# Altium integrated library Dallas Peripheral Real Time Clock.IntLib: 167 symbols (part 4 of 4)
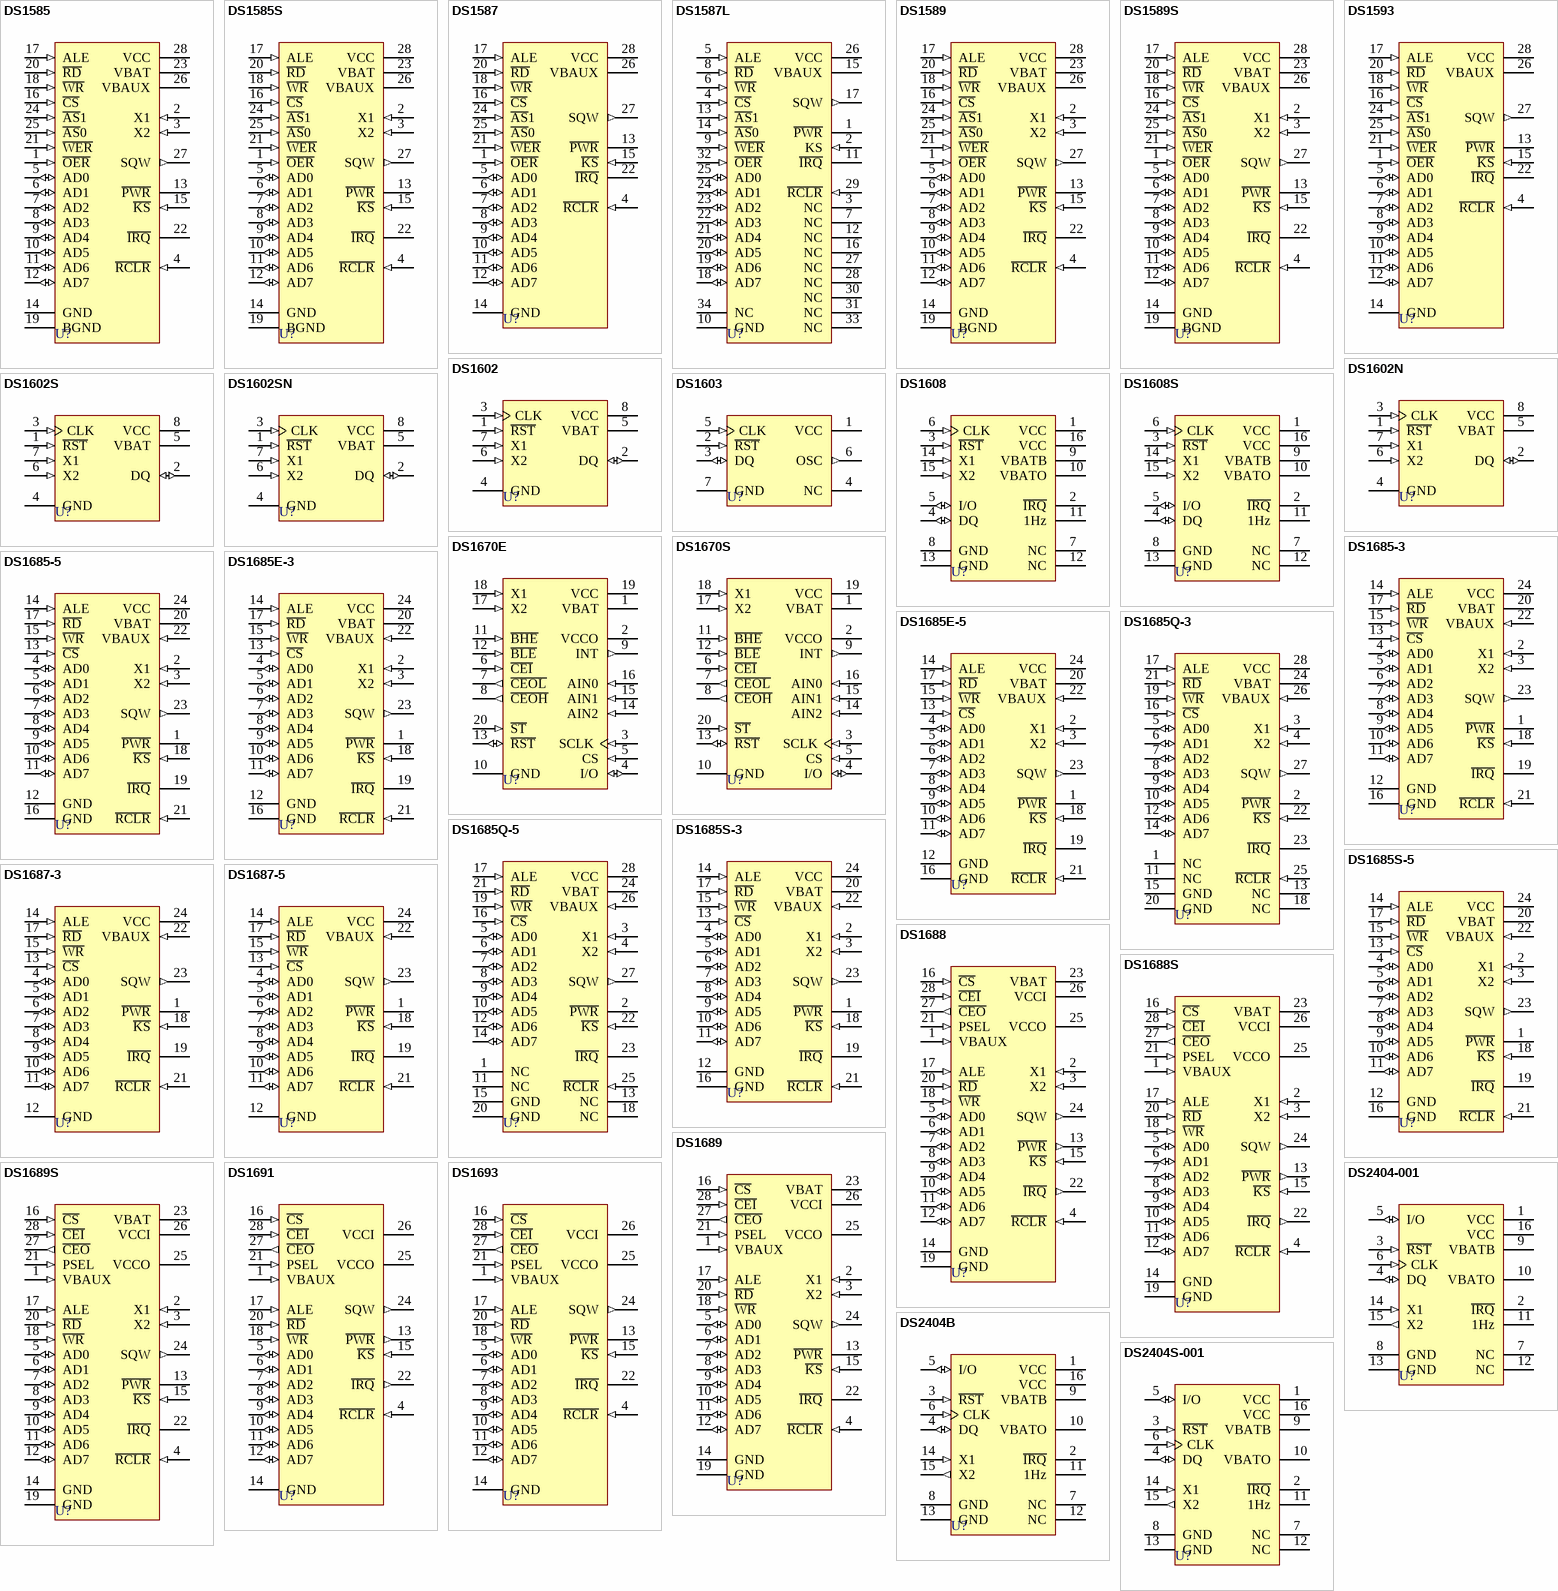
[diagram p8: symbols DS1585 to DS2404S-001]

## DS1685S-5
designator U?
5V Real-Time Clock; Published: 13-Oct-2000; LatestRevisionDate: 13-Apr-2006; LatestRevisionNote: IPC-7351 Footprint Added.; DatasheetVersion: 2-Mar-1999; PackageVersion: 1999; PackageReference: SOIC24N; Publisher: Altium Limited; PackageDescription: 24-Pin Small Outline Integrated Circuit 1.27 mm Pitch; Code_IPC: SOIC127P1047-24; ComponentLink1Description: Manufacturer Link; ComponentLink1URL: http://www.maxim-ic.com/; ComponentLink2Description: Datasheet; ComponentLink2URL: http://pdfserv.maxim-ic.com/en/ds/DS1685-DS1687.pdf; ComponentLink3Description: Discontinuation Notice; ComponentLink3URL: http://www.maxim-ic.com/qa/pdfs/non-obsolescence-letter.pdf
footprint SOIC24N_N (SOIC, 24-Leads, Body 15.4x7.5mm, Pitch 1.27mm, IPC Medium Density)
footprint SOIC24N_L (SOIC, 24-Leads, Body 15.4x7.5mm, Pitch 1.27mm, IPC High Density)
footprint SOIC24N_M (SOIC, 24-Leads, Body 15.4x7.5mm, Pitch 1.27mm, IPC Low Density)
3D model SOIC24N (24-Pin Small Outline Integrated Circuit 1.27 mm Pitch)
pins: 1 ~{PWR} (oc), 2 X1 (in), 3 X2 (in), 4 AD0 (io), 5 AD1 (io), 6 AD2 (io), 7 AD3 (io), 8 AD4 (io), 9 AD5 (io), 10 AD6 (io), 11 AD7 (io), 12 GND (power), 13 ~{CS} (in), 14 ALE (in), 15 ~{WR} (in), 16 GND (power), 17 ~{RD} (in), 18 ~{KS} (in), 19 ~{IRQ} (oc), 20 VBAT (power), 21 ~{RCLR} (in), 22 VBAUX (in), 23 SQW (out), 24 VCC (power)

## DS1687-3
designator U?
3V Real-Time Clock; Note: Pin numbers 2, 3, 16 and 20 are Not Connected (NC); Published: 13-Oct-2000; LatestRevisionDate: 17-Jul-2002; LatestRevisionNote: Re-released for DXP Platform.; DatasheetVersion: 2-Mar-1999; PackageReference: ENDIP24D; Publisher: Altium Limited; PackageDescription: DIP; 24 Rectangular pins (4 Absent); Row Space 15.24 mm; Pitch 2.54 mm; ComponentLink1Description: Manufacturer Link; ComponentLink1URL: http://www.maxim-ic.com/; ComponentLink2Description: Datasheet; ComponentLink2URL: http://pdfserv.maxim-ic.com/en/ds/DS1685-DS1687.pdf
footprint ENDIP24D (DIP; 24 Rectangular pins (4 Absent); Row Space 15.24 mm; Pitch 2.54 mm)
pins: 1 ~{PWR} (oc), 4 AD0 (io), 5 AD1 (io), 6 AD2 (io), 7 AD3 (io), 8 AD4 (io), 9 AD5 (io), 10 AD6 (io), 11 AD7 (io), 12 GND (power), 13 ~{CS} (in), 14 ALE (in), 15 ~{WR} (in), 17 ~{RD} (in), 18 ~{KS} (in), 19 ~{IRQ} (oc), 21 ~{RCLR} (in), 22 VBAUX (in), 23 SQW (out), 24 VCC (power)

## DS1687-5
designator U?
5V Real-Time Clock; Note: Pin numbers 2, 3, 16 and 20 are Not Connected (NC); Published: 13-Oct-2000; LatestRevisionDate: 17-Jul-2002; LatestRevisionNote: Re-released for DXP Platform.; DatasheetVersion: 2-Mar-1999; PackageReference: ENDIP24D; Publisher: Altium Limited; PackageDescription: DIP; 24 Rectangular pins (4 Absent); Row Space 15.24 mm; Pitch 2.54 mm; ComponentLink1Description: Manufacturer Link; ComponentLink1URL: http://www.maxim-ic.com/; ComponentLink2Description: Datasheet; ComponentLink2URL: http://pdfserv.maxim-ic.com/en/ds/DS1685-DS1687.pdf
footprint ENDIP24D (DIP; 24 Rectangular pins (4 Absent); Row Space 15.24 mm; Pitch 2.54 mm)
pins: 1 ~{PWR} (oc), 4 AD0 (io), 5 AD1 (io), 6 AD2 (io), 7 AD3 (io), 8 AD4 (io), 9 AD5 (io), 10 AD6 (io), 11 AD7 (io), 12 GND (power), 13 ~{CS} (in), 14 ALE (in), 15 ~{WR} (in), 17 ~{RD} (in), 18 ~{KS} (in), 19 ~{IRQ} (oc), 21 ~{RCLR} (in), 22 VBAUX (in), 23 SQW (out), 24 VCC (power)

## DS1688
designator U?
3V/5V Serialized Real-Time Clock with Nonvolatile RAM Control; Published: 13-Oct-2000; LatestRevisionDate: 06-Jun-2005; LatestRevisionNote: Stylized 3D Model Added.; DatasheetVersion: 22-Sep-1999; PackageVersion: 1999; PackageReference: DIP28W; Publisher: Altium Limited; PackageDescription: DIP; 28 Leads; Row Spacing 15.24 mm; Pitch 2.54 mm; ComponentLink1Description: Manufacturer Link; ComponentLink1URL: http://www.maxim-ic.com/; ComponentLink2Description: Datasheet; ComponentLink2URL: http://pdfserv.maxim-ic.com/en/ds/DS1688-DS1691.pdf; ComponentLink3Description: Discontinuation Notice; ComponentLink3URL: http://www.maxim-ic.com/qa/pdfs/non-obsolescence-letter.pdf
footprint DIP28W (DIP; 28 Leads; Row Spacing 15.24 mm; Pitch 2.54 mm)
3D model DIP28W (DIP; 28 Leads; Row Spacing 15.24 mm; Pitch 2.54 mm)
pins: 1 VBAUX (in), 2 X1 (in), 3 X2 (in), 4 ~{RCLR} (in), 5 AD0 (io), 6 AD1 (io), 7 AD2 (io), 8 AD3 (io), 9 AD4 (io), 10 AD5 (io), 11 AD6 (io), 12 AD7 (io), 13 ~{PWR} (out), 14 GND (power), 15 ~{KS} (in), 16 ~{CS} (in), 17 ALE (in), 18 ~{WR} (in), 19 GND (power), 20 ~{RD} (in), 21 PSEL (in), 22 ~{IRQ} (out), 23 VBAT (power), 24 SQW (out), 25 VCCO (power), 26 VCCI (power), 27 ~{CEO} (out), 28 ~{CEI} (in)

## DS1688S
designator U?
3V/5V Serialized Real-Time Clock with Nonvolatile RAM Control; Published: 13-Oct-2000; LatestRevisionDate: 13-Apr-2006; LatestRevisionNote: IPC-7351 Footprint Added.; DatasheetVersion: 22-Sep-1999; PackageVersion: Sep-1999; PackageReference: SOIC28VWA; Publisher: Altium Limited; PackageDescription: 28-Pin Small Outline Package 1.27 mm Pitch; Code_JEDEC: MO-120-AB; ComponentLink1Description: Manufacturer Link; ComponentLink1URL: http://www.maxim-ic.com/; ComponentLink2Description: Datasheet; ComponentLink2URL: http://pdfserv.maxim-ic.com/en/ds/DS1688-DS1691.pdf; ComponentLink3Description: Discontinuation Notice; ComponentLink3URL: http://www.maxim-ic.com/qa/pdfs/non-obsolescence-letter.pdf
footprint SOIC28VWA_N (SOP, 28-Leads, Body 18.1x8.6mm, Pitch 1.27mm, IPC Medium Density)
footprint SOIC28VWA_L (SOP, 28-Leads, Body 18.1x8.6mm, Pitch 1.27mm, IPC High Density)
footprint SOIC28VWA_M (SOP, 28-Leads, Body 18.1x8.6mm, Pitch 1.27mm, IPC Low Density)
3D model SOIC28VWA (28-Pin Small Outline Package 1.27 mm Pitch)
pins: 1 VBAUX (in), 2 X1 (in), 3 X2 (in), 4 ~{RCLR} (in), 5 AD0 (io), 6 AD1 (io), 7 AD2 (io), 8 AD3 (io), 9 AD4 (io), 10 AD5 (io), 11 AD6 (io), 12 AD7 (io), 13 ~{PWR} (out), 14 GND (power), 15 ~{KS} (in), 16 ~{CS} (in), 17 ALE (in), 18 ~{WR} (in), 19 GND (power), 20 ~{RD} (in), 21 PSEL (in), 22 ~{IRQ} (out), 23 VBAT (power), 24 SQW (out), 25 VCCO (power), 26 VCCI (power), 27 ~{CEO} (out), 28 ~{CEI} (in)

## DS1689
designator U?
3V/5V Serialized Real-Time Clock with Nonvolatile RAM Control; Published: 13-Oct-2000; LatestRevisionDate: 06-Jun-2005; LatestRevisionNote: Stylized 3D Model Added.; DatasheetVersion: 2-Aug-1999; PackageVersion: 1999; PackageReference: DIP28W; Publisher: Altium Limited; PackageDescription: DIP; 28 Leads; Row Spacing 15.24 mm; Pitch 2.54 mm; ComponentLink1Description: Manufacturer Link; ComponentLink1URL: http://www.maxim-ic.com/; ComponentLink2Description: Datasheet; ComponentLink2URL: http://pdfserv.maxim-ic.com/en/ds/DS1689-DS1693.pdf; ComponentLink3Description: Discontinuation Notice; ComponentLink3URL: http://www.maxim-ic.com/qa/pdfs/non-obsolescence-letter.pdf
footprint DIP28W (DIP; 28 Leads; Row Spacing 15.24 mm; Pitch 2.54 mm)
3D model DIP28W (DIP; 28 Leads; Row Spacing 15.24 mm; Pitch 2.54 mm)
pins: 1 VBAUX (in), 2 X1 (in), 3 X2 (in), 4 ~{RCLR} (in), 5 AD0 (io), 6 AD1 (io), 7 AD2 (io), 8 AD3 (io), 9 AD4 (io), 10 AD5 (io), 11 AD6 (io), 12 AD7 (io), 13 ~{PWR} (oc), 14 GND (power), 15 ~{KS} (in), 16 ~{CS} (in), 17 ALE (in), 18 ~{WR} (in), 19 GND (power), 20 ~{RD} (in), 21 PSEL (in), 22 ~{IRQ} (oc), 23 VBAT (power), 24 SQW (out), 25 VCCO (power), 26 VCCI (power), 27 ~{CEO} (out), 28 ~{CEI} (in)

## DS1689S
designator U?
3V/5V Serialized Real-Time Clock with Nonvolatile RAM Control; Published: 13-Oct-2000; LatestRevisionDate: 13-Apr-2006; LatestRevisionNote: IPC-7351 Footprint Added.; DatasheetVersion: 2-Aug-1999; PackageVersion: Sep-1999; PackageReference: SOIC28VWA; Publisher: Altium Limited; PackageDescription: 28-Pin Small Outline Package 1.27 mm Pitch; Code_JEDEC: MO-120-AB; ComponentLink1Description: Manufacturer Link; ComponentLink1URL: http://www.maxim-ic.com/; ComponentLink2Description: Datasheet; ComponentLink2URL: http://pdfserv.maxim-ic.com/en/ds/DS1689-DS1693.pdf; ComponentLink3Description: Discontinuation Notice; ComponentLink3URL: http://www.maxim-ic.com/qa/pdfs/non-obsolescence-letter.pdf
footprint SOIC28VWA_N (SOP, 28-Leads, Body 18.1x8.6mm, Pitch 1.27mm, IPC Medium Density)
footprint SOIC28VWA_L (SOP, 28-Leads, Body 18.1x8.6mm, Pitch 1.27mm, IPC High Density)
footprint SOIC28VWA_M (SOP, 28-Leads, Body 18.1x8.6mm, Pitch 1.27mm, IPC Low Density)
3D model SOIC28VWA (28-Pin Small Outline Package 1.27 mm Pitch)
pins: 1 VBAUX (in), 2 X1 (in), 3 X2 (in), 4 ~{RCLR} (in), 5 AD0 (io), 6 AD1 (io), 7 AD2 (io), 8 AD3 (io), 9 AD4 (io), 10 AD5 (io), 11 AD6 (io), 12 AD7 (io), 13 ~{PWR} (oc), 14 GND (power), 15 ~{KS} (in), 16 ~{CS} (in), 17 ALE (in), 18 ~{WR} (in), 19 GND (power), 20 ~{RD} (in), 21 PSEL (in), 22 ~{IRQ} (oc), 23 VBAT (power), 24 SQW (out), 25 VCCO (power), 26 VCCI (power), 27 ~{CEO} (out), 28 ~{CEI} (in)

## DS1691
designator U?
3V/5V Serialized Real-Time Clock with Nonvolatile RAM Control; Note: Pin numbers 2, 3, 19 and 23 are Not Connected (NC); Published: 13-Oct-2000; LatestRevisionDate: 17-Jul-2002; LatestRevisionNote: Re-released for DXP Platform.; DatasheetVersion: 22-Sep-1999; PackageReference: ENDIP28H; Publisher: Altium Limited; PackageDescription: DIP; 28 Rectangular pins (4 Absent); Row Space 15.24 mm; Pitch 2.54 mm; ComponentLink1Description: Manufacturer Link; ComponentLink1URL: http://www.maxim-ic.com/; ComponentLink2Description: Datasheet; ComponentLink2URL: http://pdfserv.maxim-ic.com/en/ds/DS1688-DS1691.pdf; ComponentLink3Description: Discontinuation Notice; ComponentLink3URL: http://www.maxim-ic.com/qa/pdfs/non-obsolescence-letter.pdf
footprint ENDIP28H (DIP; 28 Rectangular pins (4 Absent); Row Space 15.24 mm; Pitch 2.54 mm)
pins: 1 VBAUX (in), 4 ~{RCLR} (in), 5 AD0 (io), 6 AD1 (io), 7 AD2 (io), 8 AD3 (io), 9 AD4 (io), 10 AD5 (io), 11 AD6 (io), 12 AD7 (io), 13 ~{PWR} (out), 14 GND (power), 15 ~{KS} (in), 16 ~{CS} (in), 17 ALE (in), 18 ~{WR} (in), 20 ~{RD} (in), 21 PSEL (in), 22 ~{IRQ} (out), 24 SQW (out), 25 VCCO (power), 26 VCCI (power), 27 ~{CEO} (out), 28 ~{CEI} (in)

## DS1693
designator U?
3V/5V Serialized Real-Time Clock with Nonvolatile RAM Control; Note: Pin numbers 2, 3 and 23 are Not Connected (NC); Published: 13-Oct-2000; LatestRevisionDate: 17-Jul-2002; LatestRevisionNote: Re-released for DXP Platform.; DatasheetVersion: 2-Aug-1999; PackageReference: ENDIP28H; Publisher: Altium Limited; PackageDescription: DIP; 28 Rectangular pins (4 Absent); Row Space 15.24 mm; Pitch 2.54 mm; ComponentLink1Description: Manufacturer Link; ComponentLink1URL: http://www.maxim-ic.com/; ComponentLink2Description: Datasheet; ComponentLink2URL: http://pdfserv.maxim-ic.com/en/ds/DS1689-DS1693.pdf; ComponentLink3Description: Discontinuation Notice; ComponentLink3URL: http://www.maxim-ic.com/qa/pdfs/non-obsolescence-letter.pdf
footprint ENDIP28H (DIP; 28 Rectangular pins (4 Absent); Row Space 15.24 mm; Pitch 2.54 mm)
pins: 1 VBAUX (in), 4 ~{RCLR} (in), 5 AD0 (io), 6 AD1 (io), 7 AD2 (io), 8 AD3 (io), 9 AD4 (io), 10 AD5 (io), 11 AD6 (io), 12 AD7 (io), 13 ~{PWR} (oc), 14 GND (power), 15 ~{KS} (in), 16 ~{CS} (in), 17 ALE (in), 18 ~{WR} (in), 20 ~{RD} (in), 21 PSEL (in), 22 ~{IRQ} (oc), 24 SQW (out), 25 VCCO (power), 26 VCCI (power), 27 ~{CEO} (out), 28 ~{CEI} (in)

## DS2404-001
designator U?
EconoRAM Time Chip; Note: Pin numbers 7 and 12 are Not Connected (NC); Published: 13-Oct-2000; LatestRevisionDate: 06-Jun-2005; LatestRevisionNote: Stylized 3D Model Added.; DatasheetVersion: 9-Feb-1998; PackageVersion: 1999; PackageReference: DIP16; Publisher: Altium Limited; PackageDescription: DIP; 16 Leads; Row Spacing 7.62 mm; Pitch 2.54 mm; ComponentLink1Description: Manufacturer Link; ComponentLink1URL: http://www.maxim-ic.com/; ComponentLink2Description: Datasheet; ComponentLink2URL: http://pdfserv.maxim-ic.com/en/ds/DS2404.pdf; ComponentLink3Description: Discontinuation Notice; ComponentLink3URL: http://www.maxim-ic.com/qa/pdfs/non-obsolescence-letter.pdf
footprint DIP16 (DIP; 16 Leads; Row Spacing 7.62 mm; Pitch 2.54 mm)
3D model DIP16 (DIP; 16 Leads; Row Spacing 7.62 mm; Pitch 2.54 mm)
pins: 1 VCC (power), 2 ~{IRQ} (oc), 3 ~{RST} (in), 4 DQ (io), 5 I/O (io), 6 CLK (in), 7 NC, 8 GND (power), 9 VBATB (power), 10 VBATO (power), 11 1Hz (oc), 12 NC, 13 GND (power), 14 X1 (in), 15 X2 (out), 16 VCC (power)

## DS2404B
designator U?
EconoRAM Time Chip; Note: Pin numbers 7 and 12 are Not Connected (NC); Published: 13-Oct-2000; LatestRevisionDate: 06-Jun-2005; LatestRevisionNote: Stylized 3D Model Added.; DatasheetVersion: 9-Feb-1998; PackageVersion: Feb-1999; PackageReference: SSOP16; Publisher: Altium Limited; PackageDescription: SSOP; 16 Leads; Body Width 5.3 mm; Pitch 0.65 mm; ComponentLink1Description: Manufacturer Link; ComponentLink1URL: http://www.maxim-ic.com/; ComponentLink2Description: Datasheet; ComponentLink2URL: http://pdfserv.maxim-ic.com/en/ds/DS2404.pdf; ComponentLink3Description: Discontinuation Notice; ComponentLink3URL: http://www.maxim-ic.com/qa/pdfs/non-obsolescence-letter.pdf
footprint SSOP16 (SSOP; 16 Leads; Body Width 5.3 mm; Pitch 0.65 mm)
3D model SSOP16 (SSOP; 16 Leads; Body Width 5.3 mm; Pitch 0.65 mm)
pins: 1 VCC (power), 2 ~{IRQ} (oc), 3 ~{RST} (in), 4 DQ (io), 5 I/O (io), 6 CLK (in), 7 NC, 8 GND (power), 9 VBATB (power), 10 VBATO (power), 11 1Hz (oc), 12 NC, 13 GND (power), 14 X1 (in), 15 X2 (out), 16 VCC (power)

## DS2404S-001
designator U?
EconoRAM Time Chip; Note: Pin numbers 7 and 12 are Not Connected (NC); Published: 13-Oct-2000; LatestRevisionDate: 13-Apr-2006; LatestRevisionNote: IPC-7351 Footprint Added.; DatasheetVersion: 9-Feb-1998; PackageVersion: 1999; PackageReference: SOIC16W; Publisher: Altium Limited; PackageDescription: 16-Pin Small Outline Integrated Circuit 1.27 mm Pitch; ComponentLink1Description: Manufacturer Link; ComponentLink1URL: http://www.maxim-ic.com/; ComponentLink2Description: Datasheet; ComponentLink2URL: http://pdfserv.maxim-ic.com/en/ds/DS2404.pdf; ComponentLink3Description: Discontinuation Notice; ComponentLink3URL: http://www.maxim-ic.com/qa/pdfs/non-obsolescence-letter.pdf
footprint SOIC16W_N (SOIC, 16-Leads, Body 10.3x7.5mm, Pitch 1.27mm, IPC Medium Density)
footprint SOIC16W_L (SOIC, 16-Leads, Body 10.3x7.5mm, Pitch 1.27mm, IPC High Density)
footprint SOIC16W_M (SOIC, 16-Leads, Body 10.3x7.5mm, Pitch 1.27mm, IPC Low Density)
3D model SOIC16WA (16-Pin Small Outline Integrated Circuit 1.27 mm Pitch)
pins: 1 VCC (power), 2 ~{IRQ} (oc), 3 ~{RST} (in), 4 DQ (io), 5 I/O (io), 6 CLK (in), 7 NC, 8 GND (power), 9 VBATB (power), 10 VBATO (power), 11 1Hz (oc), 12 NC, 13 GND (power), 14 X1 (in), 15 X2 (out), 16 VCC (power)

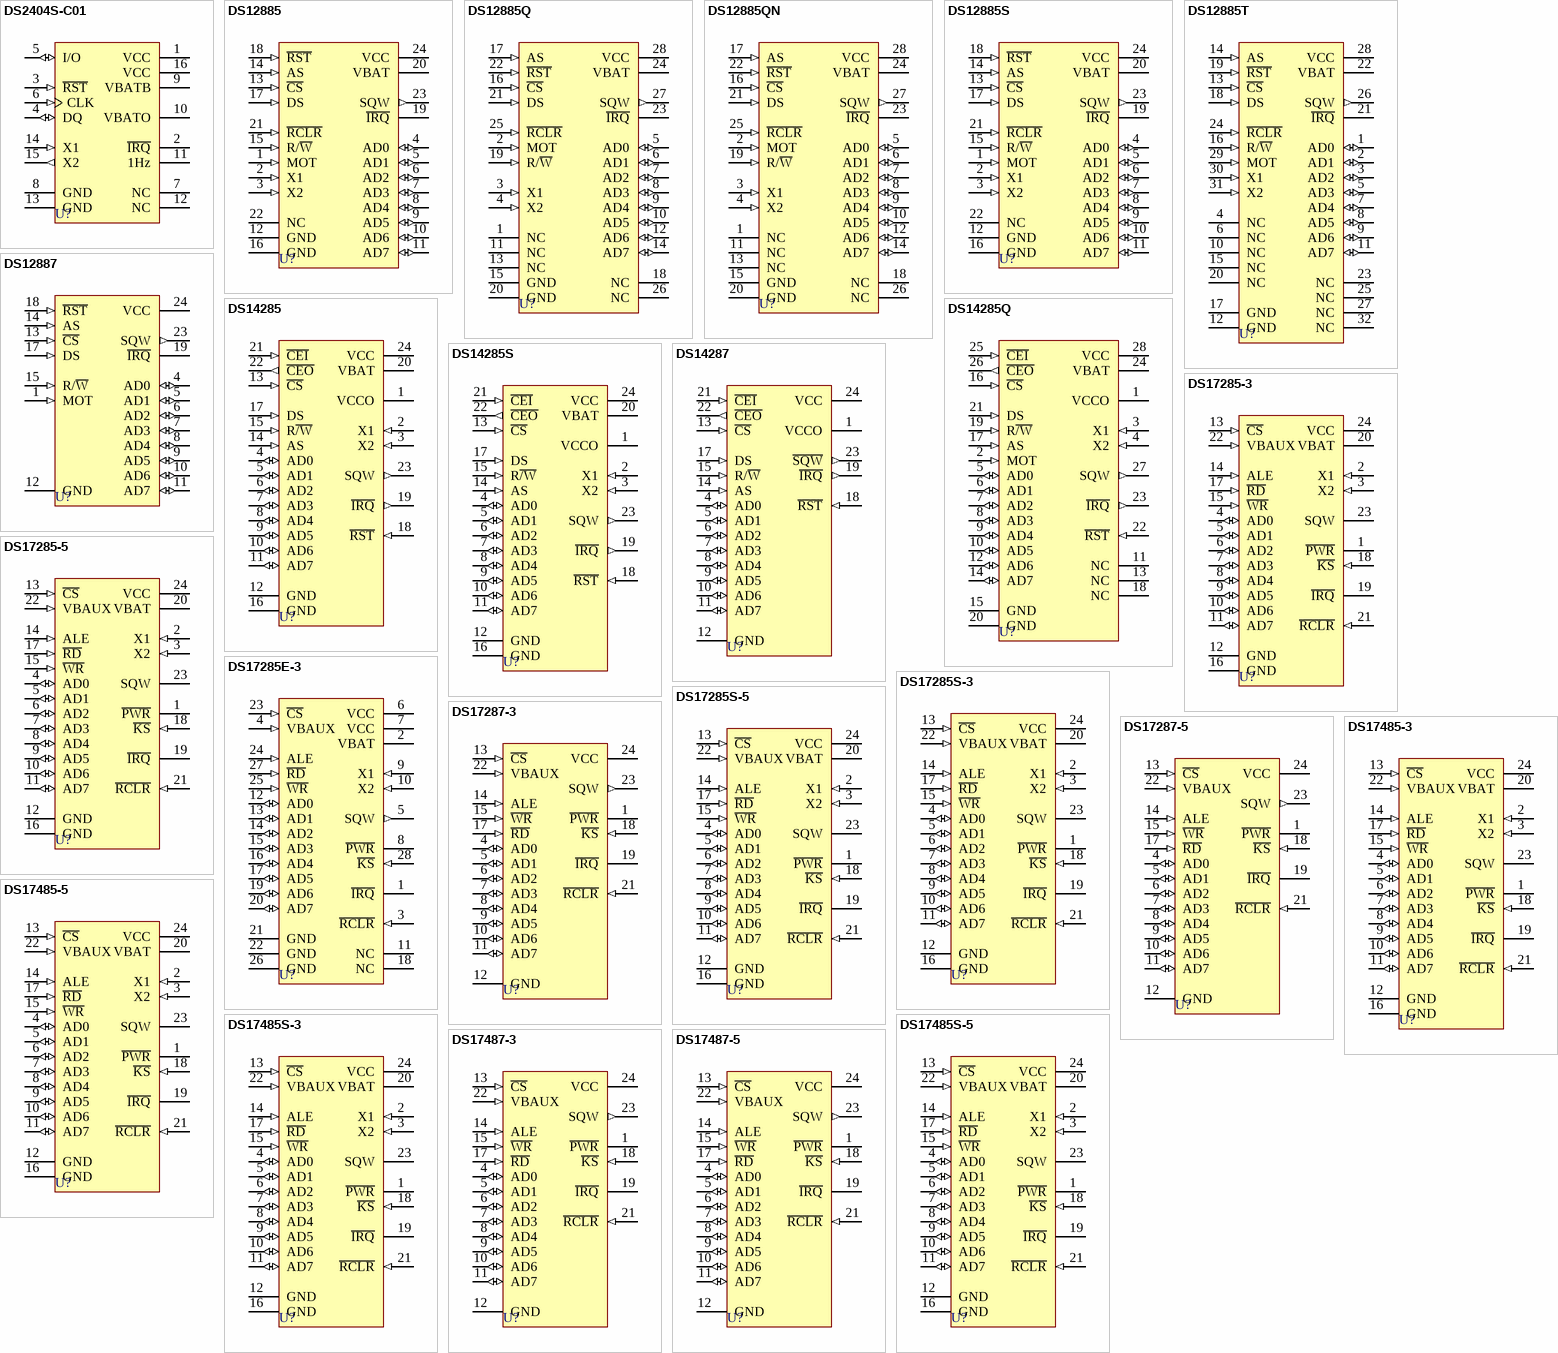
[diagram p5: symbols DS2404S-C01 to DS17487-5]

## DS2404S-C01
designator U?
Dual Port Memory Plus Time; Note: Pin numbers 7 and 12 are Not Connected (NC); Published: 13-Oct-2000; LatestRevisionDate: 13-Apr-2006; LatestRevisionNote: IPC-7351 Footprint Added.; DatasheetVersion: 20-Oct-1999; PackageVersion: 1999; PackageReference: SOIC16W; Publisher: Altium Limited; PackageDescription: 16-Pin Small Outline Integrated Circuit 1.27 mm Pitch; ComponentLink1Description: Manufacturer Link; ComponentLink1URL: http://www.maxim-ic.com/; ComponentLink2Description: Datasheet; ComponentLink2URL: http://pdfserv.maxim-ic.com/en/ds/DS2404S-C01.pdf; ComponentLink3Description: Discontinuation Notice; ComponentLink3URL: http://www.maxim-ic.com/qa/pdfs/non-obsolescence-letter.pdf
footprint SOIC16W_N (SOIC, 16-Leads, Body 10.3x7.5mm, Pitch 1.27mm, IPC Medium Density)
footprint SOIC16W_L (SOIC, 16-Leads, Body 10.3x7.5mm, Pitch 1.27mm, IPC High Density)
footprint SOIC16W_M (SOIC, 16-Leads, Body 10.3x7.5mm, Pitch 1.27mm, IPC Low Density)
3D model SOIC16WA (16-Pin Small Outline Integrated Circuit 1.27 mm Pitch)
pins: 1 VCC (power), 2 ~{IRQ} (oc), 3 ~{RST} (in), 4 DQ (io), 5 I/O (io), 6 CLK (in), 7 NC, 8 GND (power), 9 VBATB (power), 10 VBATO (power), 11 1Hz (oc), 12 NC, 13 GND (power), 14 X1 (in), 15 X2 (out), 16 VCC (power)

## DS12885
designator U?
Real-Time Clock; Note: Pin number 22 is Not Connected (NC); Published: 13-Oct-2000; LatestRevisionDate: 06-Jun-2005; LatestRevisionNote: Stylized 3D Model Added.; DatasheetVersion: 25-Aug-1999; PackageVersion: 1998; PackageReference: DIP24WA; Publisher: Altium Limited; PackageDescription: DIP; 24 Leads; Row Spacing 15.24 mm; Pitch 2.54 mm; ComponentLink1Description: Manufacturer Link; ComponentLink1URL: http://www.maxim-ic.com/; ComponentLink2Description: Datasheet; ComponentLink2URL: http://pdfserv.maxim-ic.com/en/ds/DS12885.pdf
footprint DIP24WA (DIP; 24 Leads; Row Spacing 15.24 mm; Pitch 2.54 mm)
3D model DIP24W (DIP; 24 Leads; Row Spacing 15.24 mm; Pitch 2.54 mm)
pins: 1 MOT (in), 2 X1 (in), 3 X2 (in), 4 AD0 (io), 5 AD1 (io), 6 AD2 (io), 7 AD3 (io), 8 AD4 (io), 9 AD5 (io), 10 AD6 (io), 11 AD7 (io), 12 GND (power), 13 ~{CS} (in), 14 AS (in), 15 R/~{W} (in), 16 GND (power), 17 DS (in), 18 ~{RST} (in), 19 ~{IRQ} (oc), 20 VBAT (power), 21 ~{RCLR} (in), 22 NC, 23 SQW (out), 24 VCC (power)

## DS12885Q
designator U?
Real-Time Clock; Note: Pin numbers 1, 11, 13, 18 and 26 are Not Connected (NC); Published: 13-Oct-2000; LatestRevisionDate: 13-Apr-2006; LatestRevisionNote: IPC-7351 Footprint Added.; DatasheetVersion: 25-Aug-1999; PackageVersion: Rev D, Feb-2006; PackageReference: PLCC28; Publisher: Altium Limited; PackageDescription: 28-Pin Leaded Chip Carrier 1.27 mm Pitch; Code_IPC: PLCC-28; ComponentLink1Description: Manufacturer Link; ComponentLink1URL: http://www.maxim-ic.com/; ComponentLink2Description: Datasheet; ComponentLink2URL: http://pdfserv.maxim-ic.com/en/ds/DS12885.pdf
footprint PLCC28_N (Leaded Chip Carrier, 28-Leads, Body 11.5x11.5mm, Pitch 1.27mm, IPC Medium Density)
footprint PLCC28_L (Leaded Chip Carrier, 28-Leads, Body 11.5x11.5mm, Pitch 1.27mm, IPC High Density)
footprint PLCC28_M (Leaded Chip Carrier, 28-Leads, Body 11.5x11.5mm, Pitch 1.27mm, IPC Low Density)
3D model DS12885-PLCC28B (28-Pin Leaded Chip Carrier 1.27 mm Pitch)
pins: 1 NC, 2 MOT (in), 3 X1 (in), 4 X2 (in), 5 AD0 (io), 6 AD1 (io), 7 AD2 (io), 8 AD3 (io), 9 AD4 (io), 10 AD5 (io), 11 NC, 12 AD6 (io), 13 NC, 14 AD7 (io), 15 GND (power), 16 ~{CS} (in), 17 AS (in), 18 NC, 19 R/~{W} (in), 20 GND (power), 21 DS (in), 22 ~{RST} (in), 23 ~{IRQ} (oc), 24 VBAT (power), 25 ~{RCLR} (in), 26 NC, 27 SQW (out), 28 VCC (power)

## DS12885QN
designator U?
Real-Time Clock; Note: Pin numbers 1, 11, 13, 18 and 26 are Not Connected (NC); Published: 13-Oct-2000; LatestRevisionDate: 13-Apr-2006; LatestRevisionNote: IPC-7351 Footprint Added.; DatasheetVersion: 25-Aug-1999; PackageVersion: Rev D, Feb-2006; PackageReference: PLCC28; Publisher: Altium Limited; PackageDescription: 28-Pin Leaded Chip Carrier 1.27 mm Pitch; Code_IPC: PLCC-28; ComponentLink1Description: Manufacturer Link; ComponentLink1URL: http://www.maxim-ic.com/; ComponentLink2Description: Datasheet; ComponentLink2URL: http://pdfserv.maxim-ic.com/en/ds/DS12885.pdf
footprint PLCC28_N (Leaded Chip Carrier, 28-Leads, Body 11.5x11.5mm, Pitch 1.27mm, IPC Medium Density)
footprint PLCC28_L (Leaded Chip Carrier, 28-Leads, Body 11.5x11.5mm, Pitch 1.27mm, IPC High Density)
footprint PLCC28_M (Leaded Chip Carrier, 28-Leads, Body 11.5x11.5mm, Pitch 1.27mm, IPC Low Density)
3D model DS12885-PLCC28B (28-Pin Leaded Chip Carrier 1.27 mm Pitch)
pins: 1 NC, 2 MOT (in), 3 X1 (in), 4 X2 (in), 5 AD0 (io), 6 AD1 (io), 7 AD2 (io), 8 AD3 (io), 9 AD4 (io), 10 AD5 (io), 11 NC, 12 AD6 (io), 13 NC, 14 AD7 (io), 15 GND (power), 16 ~{CS} (in), 17 AS (in), 18 NC, 19 R/~{W} (in), 20 GND (power), 21 DS (in), 22 ~{RST} (in), 23 ~{IRQ} (oc), 24 VBAT (power), 25 ~{RCLR} (in), 26 NC, 27 SQW (out), 28 VCC (power)

## DS12885S
designator U?
Real-Time Clock; Note: Pin number 22 is Not Connected (NC); Published: 13-Oct-2000; LatestRevisionDate: 13-Apr-2006; LatestRevisionNote: IPC-7351 Footprint Added.; DatasheetVersion: 25-Aug-1999; PackageVersion: 1994; PackageReference: SOIC24NA; Publisher: Altium Limited; PackageDescription: 24-Pin Small Outline Integrated Circuit 1.27 mm Pitch; Code_IPC: SOIC127P1047-24; ComponentLink1Description: Manufacturer Link; ComponentLink1URL: http://www.maxim-ic.com/; ComponentLink2Description: Datasheet; ComponentLink2URL: http://pdfserv.maxim-ic.com/en/ds/DS12885.pdf
footprint SOIC24NA_N (SOIC, 24-Leads, Body 15.4x7.5mm, Pitch 1.27mm, IPC Medium Density)
footprint SOIC24NA_L (SOIC, 24-Leads, Body 15.4x7.5mm, Pitch 1.27mm, IPC High Density)
footprint SOIC24NA_M (SOIC, 24-Leads, Body 15.4x7.5mm, Pitch 1.27mm, IPC Low Density)
3D model SOIC24N (24-Pin Small Outline Integrated Circuit 1.27 mm Pitch)
pins: 1 MOT (in), 2 X1 (in), 3 X2 (in), 4 AD0 (io), 5 AD1 (io), 6 AD2 (io), 7 AD3 (io), 8 AD4 (io), 9 AD5 (io), 10 AD6 (io), 11 AD7 (io), 12 GND (power), 13 ~{CS} (in), 14 AS (in), 15 R/~{W} (in), 16 GND (power), 17 DS (in), 18 ~{RST} (in), 19 ~{IRQ} (oc), 20 VBAT (power), 21 ~{RCLR} (in), 22 NC, 23 SQW (out), 24 VCC (power)

## DS12885T
designator U?
Real-Time Clock; Note: Pin numbers 4, 6, 10, 15, 20, 23, 25, 27 and 32 are Not Connected (NC); Published: 13-Oct-2000; LatestRevisionDate: 13-Apr-2006; LatestRevisionNote: IPC-7351 Footprint Added.; DatasheetVersion: 25-Aug-1999; PackageReference: TQFP32; Publisher: Altium Limited; PackageDescription: 32-Pin Thin Quad Flat Pack 0.8 mm Pitch; ComponentLink1Description: Manufacturer Link; ComponentLink1URL: http://www.maxim-ic.com/; ComponentLink2Description: Datasheet; ComponentLink2URL: http://pdfserv.maxim-ic.com/en/ds/DS12885.pdf; ComponentLink3Description: Discontinuation Notice; ComponentLink3URL: http://www.maxim-ic.com/qa/pdfs/non-obsolescence-letter.pdf
footprint TQFP32_N (Thin QFP, 32-Leads, Body 7x7mm, Pitch 0.8mm, IPC Medium Density)
footprint TQFP32_L (Thin QFP, 32-Leads, Body 7x7mm, Pitch 0.8mm, IPC High Density)
footprint TQFP32_M (Thin QFP, 32-Leads, Body 7x7mm, Pitch 0.8mm, IPC Low Density)
3D model DS12885-TQFP32 (32-Pin Thin Quad Flat Pack 0.8 mm Pitch)
pins: 1 AD0 (io), 2 AD1 (io), 3 AD2 (io), 4 NC, 5 AD3 (io), 6 NC, 7 AD4 (io), 8 AD5 (io), 9 AD6 (io), 10 NC, 11 AD7 (io), 12 GND (power), 13 ~{CS} (in), 14 AS (in), 15 NC, 16 R/~{W} (in), 17 GND (power), 18 DS (in), 19 ~{RST} (in), 20 NC, 21 ~{IRQ} (oc), 22 VBAT (power), 23 NC, 24 ~{RCLR} (in), 25 NC, 26 SQW (out), 27 NC, 28 VCC (power), 29 MOT (in), 30 X1 (in), 31 X2 (in), 32 NC

## DS12887
designator U?
Real-Time Clock; Note: Pin numbers 2, 3, 16, 20 and 22 are Not Connected (NC); Published: 13-Oct-2000; LatestRevisionDate: 17-Jul-2002; LatestRevisionNote: Re-released for DXP Platform.; DatasheetVersion: 27-Jul-1999; PackageReference: ENDIP24A; Publisher: Altium Limited; PackageDescription: DIP; 24 Rectangular pins (6 Absent); Row Space 15.24 mm; Pitch 2.54 mm; ComponentLink1Description: Manufacturer Link; ComponentLink1URL: http://www.maxim-ic.com/; ComponentLink2Description: Datasheet; ComponentLink2URL: http://pdfserv.maxim-ic.com/en/ds/DS12887A.pdf
footprint ENDIP24A (DIP; 24 Rectangular pins (6 Absent); Row Space 15.24 mm; Pitch 2.54 mm)
pins: 1 MOT (in), 4 AD0 (io), 5 AD1 (io), 6 AD2 (io), 7 AD3 (io), 8 AD4 (io), 9 AD5 (io), 10 AD6 (io), 11 AD7 (io), 12 GND (power), 13 ~{CS} (in), 14 AS (in), 15 R/~{W} (in), 17 DS (in), 18 ~{RST} (in), 19 ~{IRQ} (oc), 23 SQW (out), 24 VCC (power)

## DS14285
designator U?
Real-Time Clock with Nonvolatile RAM Control; Published: 13-Oct-2000; LatestRevisionDate: 06-Jun-2005; LatestRevisionNote: Stylized 3D Model Added.; DatasheetVersion: 2-Aug-1999; PackageVersion: 1999; PackageReference: DIP24W; Publisher: Altium Limited; PackageDescription: DIP; 24 Leads; Row Spacing 15.24 mm; Pitch 2.54 mm; ComponentLink1Description: Manufacturer Link; ComponentLink1URL: http://www.maxim-ic.com/; ComponentLink2Description: Datasheet; ComponentLink2URL: http://pdfserv.maxim-ic.com/en/ds/DS14285-DS14287.pdf
footprint DIP24W (DIP; 24 Leads; Row Spacing 15.24 mm; Pitch 2.54 mm)
3D model DIP24W (DIP; 24 Leads; Row Spacing 15.24 mm; Pitch 2.54 mm)
pins: 1 VCCO (power), 2 X1 (in), 3 X2 (in), 4 AD0 (io), 5 AD1 (io), 6 AD2 (io), 7 AD3 (io), 8 AD4 (io), 9 AD5 (io), 10 AD6 (io), 11 AD7 (io), 12 GND (power), 13 ~{CS} (in), 14 AS (in), 15 R~{/W} (in), 16 GND (power), 17 DS (in), 18 ~{RST} (in), 19 ~{IRQ} (out), 20 VBAT (power), 21 ~{CEI} (in), 22 ~{CEO} (out), 23 SQW (out), 24 VCC (power)

## DS14285Q
designator U?
Real-Time Clock with Nonvolatile RAM Control; Note: Pin numbers  11, 13 and 18 are Not Connected (NC); Published: 13-Oct-2000; LatestRevisionDate: 13-Apr-2006; LatestRevisionNote: IPC-7351 Footprint Added.; DatasheetVersion: 2-Aug-1999; PackageVersion: Rev D, Feb-2006; PackageReference: PLCC28; Publisher: Altium Limited; PackageDescription: 28-Pin Leaded Chip Carrier 1.27 mm Pitch; Code_IPC: PLCC-28; ComponentLink1Description: Manufacturer Link; ComponentLink1URL: http://www.maxim-ic.com/; ComponentLink2Description: Datasheet; ComponentLink2URL: http://pdfserv.maxim-ic.com/en/ds/DS14285-DS14287.pdf
footprint PLCC28_N (Leaded Chip Carrier, 28-Leads, Body 11.5x11.5mm, Pitch 1.27mm, IPC Medium Density)
footprint PLCC28_L (Leaded Chip Carrier, 28-Leads, Body 11.5x11.5mm, Pitch 1.27mm, IPC High Density)
footprint PLCC28_M (Leaded Chip Carrier, 28-Leads, Body 11.5x11.5mm, Pitch 1.27mm, IPC Low Density)
3D model DS14285-PLCC28C (28-Pin Leaded Chip Carrier 1.27 mm Pitch)
pins: 1 VCCO (power), 2 MOT (in), 3 X1 (in), 4 X2 (in), 5 AD0 (io), 6 AD1 (io), 7 AD2 (io), 8 AD3 (io), 9 AD4 (io), 10 AD5 (io), 11 NC, 12 AD6 (io), 13 NC, 14 AD7 (io), 15 GND (power), 16 ~{CS} (in), 17 AS (in), 18 NC, 19 R~{/W} (in), 20 GND (power), 21 DS (in), 22 ~{RST} (in), 23 ~{IRQ} (out), 24 VBAT (power), 25 ~{CEI} (in), 26 ~{CEO} (out), 27 SQW (out), 28 VCC (power)

## DS14285S
designator U?
Real-Time Clock with Nonvolatile RAM Control; Published: 13-Oct-2000; LatestRevisionDate: 13-Apr-2006; LatestRevisionNote: IPC-7351 Footprint Added.; DatasheetVersion: 2-Aug-1999; PackageVersion: 1994; PackageReference: SOIC24NA; Publisher: Altium Limited; PackageDescription: 24-Pin Small Outline Integrated Circuit 1.27 mm Pitch; Code_IPC: SOIC127P1047-24; ComponentLink1Description: Manufacturer Link; ComponentLink1URL: http://www.maxim-ic.com/; ComponentLink2Description: Datasheet; ComponentLink2URL: http://pdfserv.maxim-ic.com/en/ds/DS14285-DS14287.pdf
footprint SOIC24NA_N (SOIC, 24-Leads, Body 15.4x7.5mm, Pitch 1.27mm, IPC Medium Density)
footprint SOIC24NA_L (SOIC, 24-Leads, Body 15.4x7.5mm, Pitch 1.27mm, IPC High Density)
footprint SOIC24NA_M (SOIC, 24-Leads, Body 15.4x7.5mm, Pitch 1.27mm, IPC Low Density)
3D model SOIC24N (24-Pin Small Outline Integrated Circuit 1.27 mm Pitch)
pins: 1 VCCO (power), 2 X1 (in), 3 X2 (in), 4 AD0 (io), 5 AD1 (io), 6 AD2 (io), 7 AD3 (io), 8 AD4 (io), 9 AD5 (io), 10 AD6 (io), 11 AD7 (io), 12 GND (power), 13 ~{CS} (in), 14 AS (in), 15 R~{/W} (in), 16 GND (power), 17 DS (in), 18 ~{RST} (in), 19 ~{IRQ} (out), 20 VBAT (power), 21 ~{CEI} (in), 22 ~{CEO} (out), 23 SQW (out), 24 VCC (power)

## DS14287
designator U?
Real-Time Clock with Nonvolatile RAM Control; Note: Pin numbers  2, 3, 16 and 20 are Not Connected (NC); Published: 13-Oct-2000; LatestRevisionDate: 17-Jul-2002; LatestRevisionNote: Re-released for DXP Platform.; DatasheetVersion: 2-Aug-1999; PackageReference: ENDIP24D; Publisher: Altium Limited; PackageDescription: DIP; 24 Rectangular pins (4 Absent); Row Space 15.24 mm; Pitch 2.54 mm; ComponentLink1Description: Manufacturer Link; ComponentLink1URL: http://www.maxim-ic.com/; ComponentLink2Description: Datasheet; ComponentLink2URL: http://pdfserv.maxim-ic.com/en/ds/DS14285-DS14287.pdf
footprint ENDIP24D (DIP; 24 Rectangular pins (4 Absent); Row Space 15.24 mm; Pitch 2.54 mm)
pins: 1 VCCO (power), 4 AD0 (io), 5 AD1 (io), 6 AD2 (io), 7 AD3 (io), 8 AD4 (io), 9 AD5 (io), 10 AD6 (io), 11 AD7 (io), 12 GND (power), 13 ~{CS} (in), 14 AS (in), 15 R/~{W} (in), 17 DS (in), 18 ~{RST} (in), 19 ~{IRQ} (out), 21 ~{CEI} (in), 22 ~{CEO} (out), 23 ~{SQW} (out), 24 VCC (power)

## DS17285-3
designator U?
3V Real-Time Clock; Published: 13-Oct-2000; LatestRevisionDate: 06-Jun-2005; LatestRevisionNote: Stylized 3D Model Added.; DatasheetVersion: 29-Apr-1999; PackageVersion: 1999; PackageReference: DIP24W; Publisher: Altium Limited; PackageDescription: DIP; 24 Leads; Row Spacing 15.24 mm; Pitch 2.54 mm; ComponentLink1Description: Manufacturer Link; ComponentLink1URL: http://www.maxim-ic.com/; ComponentLink2Description: Datasheet; ComponentLink2URL: http://pdfserv.maxim-ic.com/en/ds/DS17285-DS17287.pdf
footprint DIP24W (DIP; 24 Leads; Row Spacing 15.24 mm; Pitch 2.54 mm)
3D model DIP24W (DIP; 24 Leads; Row Spacing 15.24 mm; Pitch 2.54 mm)
pins: 1 ~{PWR} (oc), 2 X1 (in), 3 X2 (in), 4 AD0 (io), 5 AD1 (io), 6 AD2 (io), 7 AD3 (io), 8 AD4 (io), 9 AD5 (io), 10 AD6 (io), 11 AD7 (io), 12 GND (power), 13 ~{CS} (in), 14 ALE (in), 15 ~{WR} (in), 16 GND (power), 17 ~{RD} (in), 18 ~{KS} (in), 19 ~{IRQ} (oc), 20 VBAT (power), 21 ~{RCLR} (in), 22 VBAUX (in), 23 SQW (oc), 24 VCC (power)

## DS17285-5
designator U?
5V Real-Time Clock; Published: 13-Oct-2000; LatestRevisionDate: 06-Jun-2005; LatestRevisionNote: Stylized 3D Model Added.; DatasheetVersion: 29-Apr-1999; PackageVersion: 1999; PackageReference: DIP24W; Publisher: Altium Limited; PackageDescription: DIP; 24 Leads; Row Spacing 15.24 mm; Pitch 2.54 mm; ComponentLink1Description: Manufacturer Link; ComponentLink1URL: http://www.maxim-ic.com/; ComponentLink2Description: Datasheet; ComponentLink2URL: http://pdfserv.maxim-ic.com/en/ds/DS17285-DS17287.pdf
footprint DIP24W (DIP; 24 Leads; Row Spacing 15.24 mm; Pitch 2.54 mm)
3D model DIP24W (DIP; 24 Leads; Row Spacing 15.24 mm; Pitch 2.54 mm)
pins: 1 ~{PWR} (oc), 2 X1 (in), 3 X2 (in), 4 AD0 (io), 5 AD1 (io), 6 AD2 (io), 7 AD3 (io), 8 AD4 (io), 9 AD5 (io), 10 AD6 (io), 11 AD7 (io), 12 GND (power), 13 ~{CS} (in), 14 ALE (in), 15 ~{WR} (in), 16 GND (power), 17 ~{RD} (in), 18 ~{KS} (in), 19 ~{IRQ} (oc), 20 VBAT (power), 21 ~{RCLR} (in), 22 VBAUX (in), 23 SQW (oc), 24 VCC (power)

## DS17285E-3
designator U?
3V Real-Time Clock; Note: Pin numbers 11 and 18 are Not Connected (NC); Published: 13-Oct-2000; LatestRevisionDate: 06-Jun-2005; LatestRevisionNote: Stylized 3D Model Added.; DatasheetVersion: 29-Apr-1999; PackageReference: TSOP28; Publisher: Altium Limited; PackageDescription: Shrink Small Outline; 28 Leads; Body Width 11.8 mm; Pitch 0.55 mm; Code_JEDEC: MO-183-AA; ComponentLink1Description: Manufacturer Link; ComponentLink1URL: http://www.maxim-ic.com/; ComponentLink2Description: Datasheet; ComponentLink2URL: http://pdfserv.maxim-ic.com/en/ds/DS17285-DS17287.pdf
footprint TSOP28 (Shrink Small Outline; 28 Leads; Body Width 11.8 mm; Pitch 0.55 mm)
3D model TSOP28 (Shrink Small Outline; 28 Leads; Body Width 11.8 mm; Pitch 0.55 mm)
pins: 1 ~{IRQ} (oc), 2 VBAT (power), 3 ~{RCLR} (in), 4 VBAUX (in), 5 SQW (out), 6 VCC (power), 7 VCC (power), 8 ~{PWR} (oc), 9 X1 (in), 10 X2 (in), 11 NC, 12 AD0 (io), 13 AD1 (io), 14 AD2 (io), 15 AD3 (io), 16 AD4 (io), 17 AD5 (io), 18 NC, 19 AD6 (io), 20 AD7 (io), 21 GND (power), 22 GND (power), 23 ~{CS} (in), 24 ALE (in), 25 ~{WR} (in), 26 GND (power), 27 ~{RD} (in), 28 ~{KS} (in)

## DS17285S-3
designator U?
3V Real-Time Clock; Published: 13-Oct-2000; LatestRevisionDate: 13-Apr-2006; LatestRevisionNote: IPC-7351 Footprint Added.; DatasheetVersion: 29-Apr-1999; PackageVersion: 1999; PackageReference: SOIC24N; Publisher: Altium Limited; PackageDescription: 24-Pin Small Outline Integrated Circuit 1.27 mm Pitch; Code_IPC: SOIC127P1047-24; ComponentLink1Description: Manufacturer Link; ComponentLink1URL: http://www.maxim-ic.com/; ComponentLink2Description: Datasheet; ComponentLink2URL: http://pdfserv.maxim-ic.com/en/ds/DS17285-DS17287.pdf
footprint SOIC24N_N (SOIC, 24-Leads, Body 15.4x7.5mm, Pitch 1.27mm, IPC Medium Density)
footprint SOIC24N_L (SOIC, 24-Leads, Body 15.4x7.5mm, Pitch 1.27mm, IPC High Density)
footprint SOIC24N_M (SOIC, 24-Leads, Body 15.4x7.5mm, Pitch 1.27mm, IPC Low Density)
3D model SOIC24N (24-Pin Small Outline Integrated Circuit 1.27 mm Pitch)
pins: 1 ~{PWR} (oc), 2 X1 (in), 3 X2 (in), 4 AD0 (io), 5 AD1 (io), 6 AD2 (io), 7 AD3 (io), 8 AD4 (io), 9 AD5 (io), 10 AD6 (io), 11 AD7 (io), 12 GND (power), 13 ~{CS} (in), 14 ALE (in), 15 ~{WR} (in), 16 GND (power), 17 ~{RD} (in), 18 ~{KS} (in), 19 ~{IRQ} (oc), 20 VBAT (power), 21 ~{RCLR} (in), 22 VBAUX (in), 23 SQW (oc), 24 VCC (power)

## DS17285S-5
designator U?
5V Real-Time Clock; Published: 13-Oct-2000; LatestRevisionDate: 13-Apr-2006; LatestRevisionNote: IPC-7351 Footprint Added.; DatasheetVersion: 29-Apr-1999; PackageVersion: 1999; PackageReference: SOIC24N; Publisher: Altium Limited; PackageDescription: 24-Pin Small Outline Integrated Circuit 1.27 mm Pitch; Code_IPC: SOIC127P1047-24; ComponentLink1Description: Manufacturer Link; ComponentLink1URL: http://www.maxim-ic.com/; ComponentLink2Description: Datasheet; ComponentLink2URL: http://pdfserv.maxim-ic.com/en/ds/DS17285-DS17287.pdf
footprint SOIC24N_N (SOIC, 24-Leads, Body 15.4x7.5mm, Pitch 1.27mm, IPC Medium Density)
footprint SOIC24N_L (SOIC, 24-Leads, Body 15.4x7.5mm, Pitch 1.27mm, IPC High Density)
footprint SOIC24N_M (SOIC, 24-Leads, Body 15.4x7.5mm, Pitch 1.27mm, IPC Low Density)
3D model SOIC24N (24-Pin Small Outline Integrated Circuit 1.27 mm Pitch)
pins: 1 ~{PWR} (oc), 2 X1 (in), 3 X2 (in), 4 AD0 (io), 5 AD1 (io), 6 AD2 (io), 7 AD3 (io), 8 AD4 (io), 9 AD5 (io), 10 AD6 (io), 11 AD7 (io), 12 GND (power), 13 ~{CS} (in), 14 ALE (in), 15 ~{WR} (in), 16 GND (power), 17 ~{RD} (in), 18 ~{KS} (in), 19 ~{IRQ} (oc), 20 VBAT (power), 21 ~{RCLR} (in), 22 VBAUX (in), 23 SQW (oc), 24 VCC (power)

## DS17287-3
designator U?
3V Real-Time Clock; Note: Pin numbers 2, 3, 16 and 20 are Not Connected (NC); Published: 13-Oct-2000; LatestRevisionDate: 17-Jul-2002; LatestRevisionNote: Re-released for DXP Platform.; DatasheetVersion: 29-Apr-1999; PackageReference: ENDIP24D; Publisher: Altium Limited; PackageDescription: DIP; 24 Rectangular pins (4 Absent); Row Space 15.24 mm; Pitch 2.54 mm; ComponentLink1Description: Manufacturer Link; ComponentLink1URL: http://www.maxim-ic.com/; ComponentLink2Description: Datasheet; ComponentLink2URL: http://pdfserv.maxim-ic.com/en/ds/DS17285-DS17287.pdf
footprint ENDIP24D (DIP; 24 Rectangular pins (4 Absent); Row Space 15.24 mm; Pitch 2.54 mm)
pins: 1 ~{PWR} (oc), 4 AD0 (io), 5 AD1 (io), 6 AD2 (io), 7 AD3 (io), 8 AD4 (io), 9 AD5 (io), 10 AD6 (io), 11 AD7 (io), 12 GND (power), 13 ~{CS} (in), 14 ALE (in), 15 ~{WR} (in), 17 ~{RD} (in), 18 ~{KS} (in), 19 ~{IRQ} (oc), 21 ~{RCLR} (in), 22 VBAUX (in), 23 SQW (out), 24 VCC (power)

## DS17287-5
designator U?
5V Real-Time Clock; Note: Pin numbers 2, 3, 16 and 20 are Not Connected (NC); Published: 13-Oct-2000; LatestRevisionDate: 17-Jul-2002; LatestRevisionNote: Re-released for DXP Platform.; DatasheetVersion: 29-Apr-1999; PackageReference: ENDIP24D; Publisher: Altium Limited; PackageDescription: DIP; 24 Rectangular pins (4 Absent); Row Space 15.24 mm; Pitch 2.54 mm; ComponentLink1Description: Manufacturer Link; ComponentLink1URL: http://www.maxim-ic.com/; ComponentLink2Description: Datasheet; ComponentLink2URL: http://pdfserv.maxim-ic.com/en/ds/DS17285-DS17287.pdf
footprint ENDIP24D (DIP; 24 Rectangular pins (4 Absent); Row Space 15.24 mm; Pitch 2.54 mm)
pins: 1 ~{PWR} (oc), 4 AD0 (io), 5 AD1 (io), 6 AD2 (io), 7 AD3 (io), 8 AD4 (io), 9 AD5 (io), 10 AD6 (io), 11 AD7 (io), 12 GND (power), 13 ~{CS} (in), 14 ALE (in), 15 ~{WR} (in), 17 ~{RD} (in), 18 ~{KS} (in), 19 ~{IRQ} (oc), 21 ~{RCLR} (in), 22 VBAUX (in), 23 SQW (out), 24 VCC (power)

## DS17485-3
designator U?
3V Real-Time Clock; Published: 13-Oct-2000; LatestRevisionDate: 06-Jun-2005; LatestRevisionNote: Stylized 3D Model Added.; DatasheetVersion: 5-Mar-1998; PackageVersion: 1999; PackageReference: DIP24W; Publisher: Altium Limited; PackageDescription: DIP; 24 Leads; Row Spacing 15.24 mm; Pitch 2.54 mm; ComponentLink1Description: Manufacturer Link; ComponentLink1URL: http://www.maxim-ic.com/; ComponentLink2Description: Datasheet; ComponentLink2URL: http://pdfserv.maxim-ic.com/en/ds/DS17485-DS17487.pdf
footprint DIP24W (DIP; 24 Leads; Row Spacing 15.24 mm; Pitch 2.54 mm)
3D model DIP24W (DIP; 24 Leads; Row Spacing 15.24 mm; Pitch 2.54 mm)
pins: 1 ~{PWR} (oc), 2 X1 (in), 3 X2 (in), 4 AD0 (io), 5 AD1 (io), 6 AD2 (io), 7 AD3 (io), 8 AD4 (io), 9 AD5 (io), 10 AD6 (io), 11 AD7 (io), 12 GND (power), 13 ~{CS} (in), 14 ALE (in), 15 ~{WR} (in), 16 GND (power), 17 ~{RD} (in), 18 ~{KS} (in), 19 ~{IRQ} (oc), 20 VBAT (power), 21 ~{RCLR} (in), 22 VBAUX (in), 23 SQW (oc), 24 VCC (power)

## DS17485-5
designator U?
5V Real-Time Clock; Published: 13-Oct-2000; LatestRevisionDate: 06-Jun-2005; LatestRevisionNote: Stylized 3D Model Added.; DatasheetVersion: 5-Mar-1998; PackageVersion: 1999; PackageReference: DIP24W; Publisher: Altium Limited; PackageDescription: DIP; 24 Leads; Row Spacing 15.24 mm; Pitch 2.54 mm; ComponentLink1Description: Manufacturer Link; ComponentLink1URL: http://www.maxim-ic.com/; ComponentLink2Description: Datasheet; ComponentLink2URL: http://pdfserv.maxim-ic.com/en/ds/DS17485-DS17487.pdf
footprint DIP24W (DIP; 24 Leads; Row Spacing 15.24 mm; Pitch 2.54 mm)
3D model DIP24W (DIP; 24 Leads; Row Spacing 15.24 mm; Pitch 2.54 mm)
pins: 1 ~{PWR} (oc), 2 X1 (in), 3 X2 (in), 4 AD0 (io), 5 AD1 (io), 6 AD2 (io), 7 AD3 (io), 8 AD4 (io), 9 AD5 (io), 10 AD6 (io), 11 AD7 (io), 12 GND (power), 13 ~{CS} (in), 14 ALE (in), 15 ~{WR} (in), 16 GND (power), 17 ~{RD} (in), 18 ~{KS} (in), 19 ~{IRQ} (oc), 20 VBAT (power), 21 ~{RCLR} (in), 22 VBAUX (in), 23 SQW (oc), 24 VCC (power)

## DS17485S-3
designator U?
3V Real-Time Clock; Published: 13-Oct-2000; LatestRevisionDate: 13-Apr-2006; LatestRevisionNote: IPC-7351 Footprint Added.; DatasheetVersion: 5-Mar-1998; PackageVersion: 1999; PackageReference: SOIC24N; Publisher: Altium Limited; PackageDescription: 24-Pin Small Outline Integrated Circuit 1.27 mm Pitch; Code_IPC: SOIC127P1047-24; ComponentLink1Description: Manufacturer Link; ComponentLink1URL: http://www.maxim-ic.com/; ComponentLink2Description: Datasheet; ComponentLink2URL: http://pdfserv.maxim-ic.com/en/ds/DS17485-DS17487.pdf
footprint SOIC24N_N (SOIC, 24-Leads, Body 15.4x7.5mm, Pitch 1.27mm, IPC Medium Density)
footprint SOIC24N_L (SOIC, 24-Leads, Body 15.4x7.5mm, Pitch 1.27mm, IPC High Density)
footprint SOIC24N_M (SOIC, 24-Leads, Body 15.4x7.5mm, Pitch 1.27mm, IPC Low Density)
3D model SOIC24N (24-Pin Small Outline Integrated Circuit 1.27 mm Pitch)
pins: 1 ~{PWR} (oc), 2 X1 (in), 3 X2 (in), 4 AD0 (io), 5 AD1 (io), 6 AD2 (io), 7 AD3 (io), 8 AD4 (io), 9 AD5 (io), 10 AD6 (io), 11 AD7 (io), 12 GND (power), 13 ~{CS} (in), 14 ALE (in), 15 ~{WR} (in), 16 GND (power), 17 ~{RD} (in), 18 ~{KS} (in), 19 ~{IRQ} (oc), 20 VBAT (power), 21 ~{RCLR} (in), 22 VBAUX (in), 23 SQW (oc), 24 VCC (power)

## DS17485S-5
designator U?
5V Real-Time Clock; Published: 13-Oct-2000; LatestRevisionDate: 13-Apr-2006; LatestRevisionNote: IPC-7351 Footprint Added.; DatasheetVersion: 5-Mar-1998; PackageVersion: 1999; PackageReference: SOIC24N; Publisher: Altium Limited; PackageDescription: 24-Pin Small Outline Integrated Circuit 1.27 mm Pitch; Code_IPC: SOIC127P1047-24; ComponentLink1Description: Manufacturer Link; ComponentLink1URL: http://www.maxim-ic.com/; ComponentLink2Description: Datasheet; ComponentLink2URL: http://pdfserv.maxim-ic.com/en/ds/DS17485-DS17487.pdf
footprint SOIC24N_N (SOIC, 24-Leads, Body 15.4x7.5mm, Pitch 1.27mm, IPC Medium Density)
footprint SOIC24N_L (SOIC, 24-Leads, Body 15.4x7.5mm, Pitch 1.27mm, IPC High Density)
footprint SOIC24N_M (SOIC, 24-Leads, Body 15.4x7.5mm, Pitch 1.27mm, IPC Low Density)
3D model SOIC24N (24-Pin Small Outline Integrated Circuit 1.27 mm Pitch)
pins: 1 ~{PWR} (oc), 2 X1 (in), 3 X2 (in), 4 AD0 (io), 5 AD1 (io), 6 AD2 (io), 7 AD3 (io), 8 AD4 (io), 9 AD5 (io), 10 AD6 (io), 11 AD7 (io), 12 GND (power), 13 ~{CS} (in), 14 ALE (in), 15 ~{WR} (in), 16 GND (power), 17 ~{RD} (in), 18 ~{KS} (in), 19 ~{IRQ} (oc), 20 VBAT (power), 21 ~{RCLR} (in), 22 VBAUX (in), 23 SQW (oc), 24 VCC (power)

## DS17487-3
designator U?
3V Real-Time Clock; Note: Pin numbers 2, 3, 16 and 20 are Not Connected (NC); Published: 13-Oct-2000; LatestRevisionDate: 17-Jul-2002; LatestRevisionNote: Re-released for DXP Platform.; DatasheetVersion: 5-Mar-1998; PackageReference: ENDIP24D; Publisher: Altium Limited; PackageDescription: DIP; 24 Rectangular pins (4 Absent); Row Space 15.24 mm; Pitch 2.54 mm; ComponentLink1Description: Manufacturer Link; ComponentLink1URL: http://www.maxim-ic.com/; ComponentLink2Description: Datasheet; ComponentLink2URL: http://pdfserv.maxim-ic.com/en/ds/DS17485-DS17487.pdf
footprint ENDIP24D (DIP; 24 Rectangular pins (4 Absent); Row Space 15.24 mm; Pitch 2.54 mm)
pins: 1 ~{PWR} (oc), 4 AD0 (io), 5 AD1 (io), 6 AD2 (io), 7 AD3 (io), 8 AD4 (io), 9 AD5 (io), 10 AD6 (io), 11 AD7 (io), 12 GND (power), 13 ~{CS} (in), 14 ALE (in), 15 ~{WR} (in), 17 ~{RD} (in), 18 ~{KS} (in), 19 ~{IRQ} (oc), 21 ~{RCLR} (in), 22 VBAUX (in), 23 SQW (out), 24 VCC (power)

## DS17487-5
designator U?
5V Real-Time Clock; Note: Pin numbers 2, 3, 16 and 20 are Not Connected (NC); Published: 13-Oct-2000; LatestRevisionDate: 17-Jul-2002; LatestRevisionNote: Re-released for DXP Platform.; DatasheetVersion: 5-Mar-1998; PackageReference: ENDIP24D; Publisher: Altium Limited; PackageDescription: DIP; 24 Rectangular pins (4 Absent); Row Space 15.24 mm; Pitch 2.54 mm; ComponentLink1Description: Manufacturer Link; ComponentLink1URL: http://www.maxim-ic.com/; ComponentLink2Description: Datasheet; ComponentLink2URL: http://pdfserv.maxim-ic.com/en/ds/DS17485-DS17487.pdf
footprint ENDIP24D (DIP; 24 Rectangular pins (4 Absent); Row Space 15.24 mm; Pitch 2.54 mm)
pins: 1 ~{PWR} (oc), 4 AD0 (io), 5 AD1 (io), 6 AD2 (io), 7 AD3 (io), 8 AD4 (io), 9 AD5 (io), 10 AD6 (io), 11 AD7 (io), 12 GND (power), 13 ~{CS} (in), 14 ALE (in), 15 ~{WR} (in), 17 ~{RD} (in), 18 ~{KS} (in), 19 ~{IRQ} (oc), 21 ~{RCLR} (in), 22 VBAUX (in), 23 SQW (out), 24 VCC (power)